# EAGLE library part RN-42XVU (library rn42)
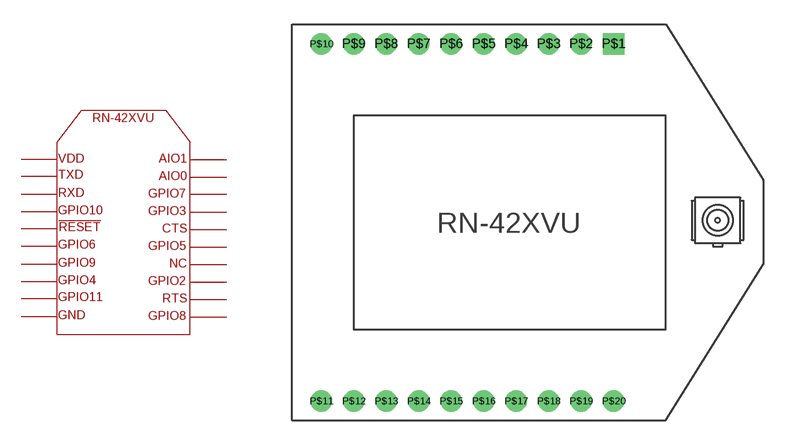
[diagram p0: symbol with the pads of 2X10; footprint 2X10]

Designator prefix -

## RN-42XVU  [2X10]
P$1  VDD  pwr
P$2  TXD  out
P$3  RXD  in
P$4  GPIO10
P$5  !RESET  in
P$6  GPIO6
P$7  GPIO9
P$8  GPIO4
P$9  GPIO11
P$10  GND  pwr
P$11  GPIO8
P$12  RTS
P$13  GPIO2
P$14  P$14  nc
P$15  GPIO5
P$16  CTS
P$17  GPIO3
P$18  GPIO7
P$19  AIO0
P$20  AIO1

## Footprint 2X10 (pad centres in mm)
drill 0.8 square: P$1 19.8,23.2
drill 0.8: P$2 17.8,23.2; P$3 15.8,23.2; P$4 13.8,23.2; P$5 11.8,23.2; P$6 9.8,23.2; P$7 7.8,23.2; P$8 5.8,23.2; P$9 3.8,23.2; P$10 1.8,23.2; P$11 1.8,1.2; P$12 3.8,1.2; P$13 5.8,1.2; P$14 7.8,1.2; P$15 9.8,1.2; P$16 11.8,1.2; P$17 13.8,1.2; P$18 15.8,1.2; P$19 17.8,1.2; P$20 19.8,1.2